# EAGLE library part LIS302DLH (library ST_Microelctronics_By_element14_Batch_1)
MEMS digital output motion sensor
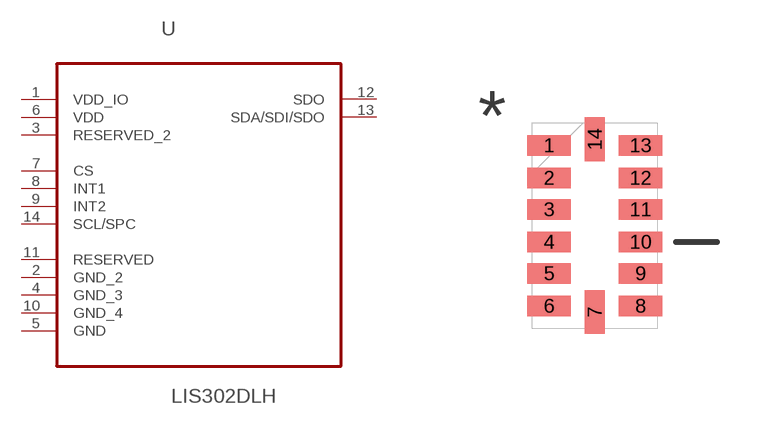
[diagram p69: symbol with the pads of LGA14R80P1X6_500X300X827; footprint LGA14R80P1X6_500X300X827]

Designator prefix U

## LIS302DLH (MPN: LIS302DLH; OC_FARNELL: 1838516; OC_NEWARK: 55R3680; PACKAGE: LGA-14; SUPPLIER: STMicroelectronics)  [LGA14R80P1X6_500X300X827]
1  VDD_IO  pwr
2  GND_2  pas
3  RESERVED_2  pwr
4  GND_3  pas
5  GND  pas
6  VDD  pwr
7  CS  in
8  INT1  in
9  INT2  in
10  GND_4  pas
11  RESERVED  pas
12  SDO  out
13  SDA/SDI/SDO
14  SCL/SPC  in

## Footprint LGA14R80P1X6_500X300X827 (pad centres in mm)
smd 1.092 x 0.508: 1 -1.143,2.007; 2 -1.143,1.194; 3 -1.143,0.406; 4 -1.143,-0.406; 5 -1.143,-1.194; 6 -1.143,-2.007; 8 1.143,-2.007; 9 1.143,-1.194; 10 1.143,-0.406; 11 1.143,0.406; 12 1.143,1.194; 13 1.143,2.007
smd 0.508 x 1.092: 7 0,-2.159; 14 0,2.159